# EAGLE library part STD020M04X2 (library con-pinheader-standard)
male standard header 2mm
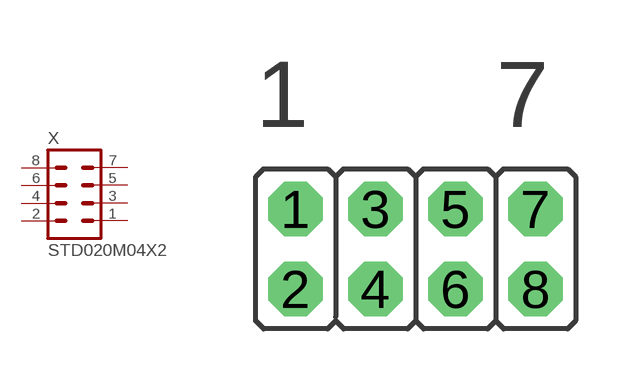
[diagram p52: symbol with the pads of STD020M04X2-2.00; footprint STD020M04X2-2.00]

Designator prefix X

## STD020M04X2-2.00MM  [STD020M04X2-2.00]
1  1  pas
2  2  pas
3  3  pas
4  4  pas
5  5  pas
6  6  pas
7  7  pas
8  8  pas

## Footprint STD020M04X2-2.00 (pad centres in mm)
male standard header 2mm
drill 0.85 octagon: 1 -3,1; 2 -3,-1; 3 -1,1; 4 -1,-1; 5 1,1; 6 1,-1; 7 3,1; 8 3,-1